# Altium footprint library Components - 29.08.24 - 16.00.PcbLib: 1 footprints
Each footprint in its own frame and in the unit in brackets; x right, y up, seen from the top. Pads: shape width x height; smd on the part's side, far side on the other; paste and mask are expansions set on the pad; w line width, h text height; cw(c..) or ccw(c..) is an arc to the next point about the centre after c.
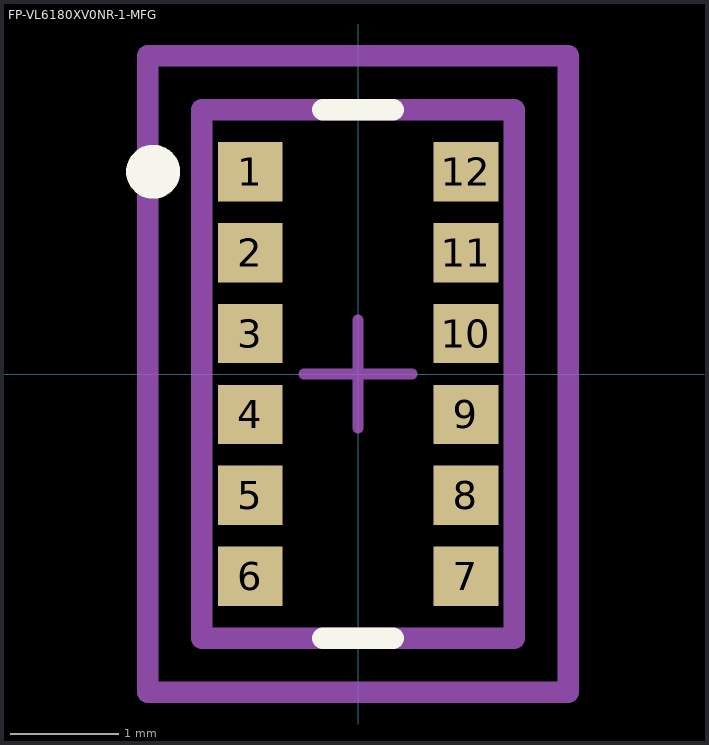
[diagram p0: the footprint, top view; thin cyan lines are the x and y axes]

## FP-VL6180XV0NR-1-MFG [mm]
pads (12):
  rect 0.6x0.55 smd paste+0 mask+0: 1(-1,1.875) 2(-1,1.125) 3(-1,0.375) 4(-1,-0.375) 5(-1,-1.125) 6(-1,-1.875) 7(1,-1.875) 8(1,-1.125) 9(1,-0.375) 10(1,0.375) 11(1,1.125) 12(1,1.875)
Top Overlay:
  circle w0.25: c-1.9,1.875 r0.125
  lines w0.2: -0.325,-2.45 0.325,-2.45 ; -0.325,2.45 0.325,2.45
Top Assembly:
  lines w0.2: -1.95,-2.95 -1.95,2.95 1.95,2.95 1.95,-2.95 -1.95,-2.95
  text ".Designator" at 0,0.188 h1
Top 3D Body:
  lines w0.2: -1.45,-2.45 -1.45,2.45 1.45,2.45 1.45,-2.45 -1.45,-2.45
Top Courtyard:
  lines w0.2: -1.95,-2.95 -1.95,2.95 1.95,2.95 1.95,-2.95 -1.95,-2.95
Top Component Center:
  lines w0.1: -0.5,0 0.5,0 ; 0,-0.5 0,0.5
3D body "IC_STMicroelectronics_VL6180XV0NR-1_eec.STEP": height 0.25, standoff 0, extent -1.95,-2.95 1.95,2.95